# Altium footprint library Base Board.PcbLib: 37 footprints (part 1 of 3)
Each footprint in its own frame and in the unit in brackets; x right, y up, seen from the top. Pads: shape width x height; smd on the part's side, far side on the other; paste and mask are expansions set on the pad; w line width, h text height; cw(c..) or ccw(c..) is an arc to the next point about the centre after c.
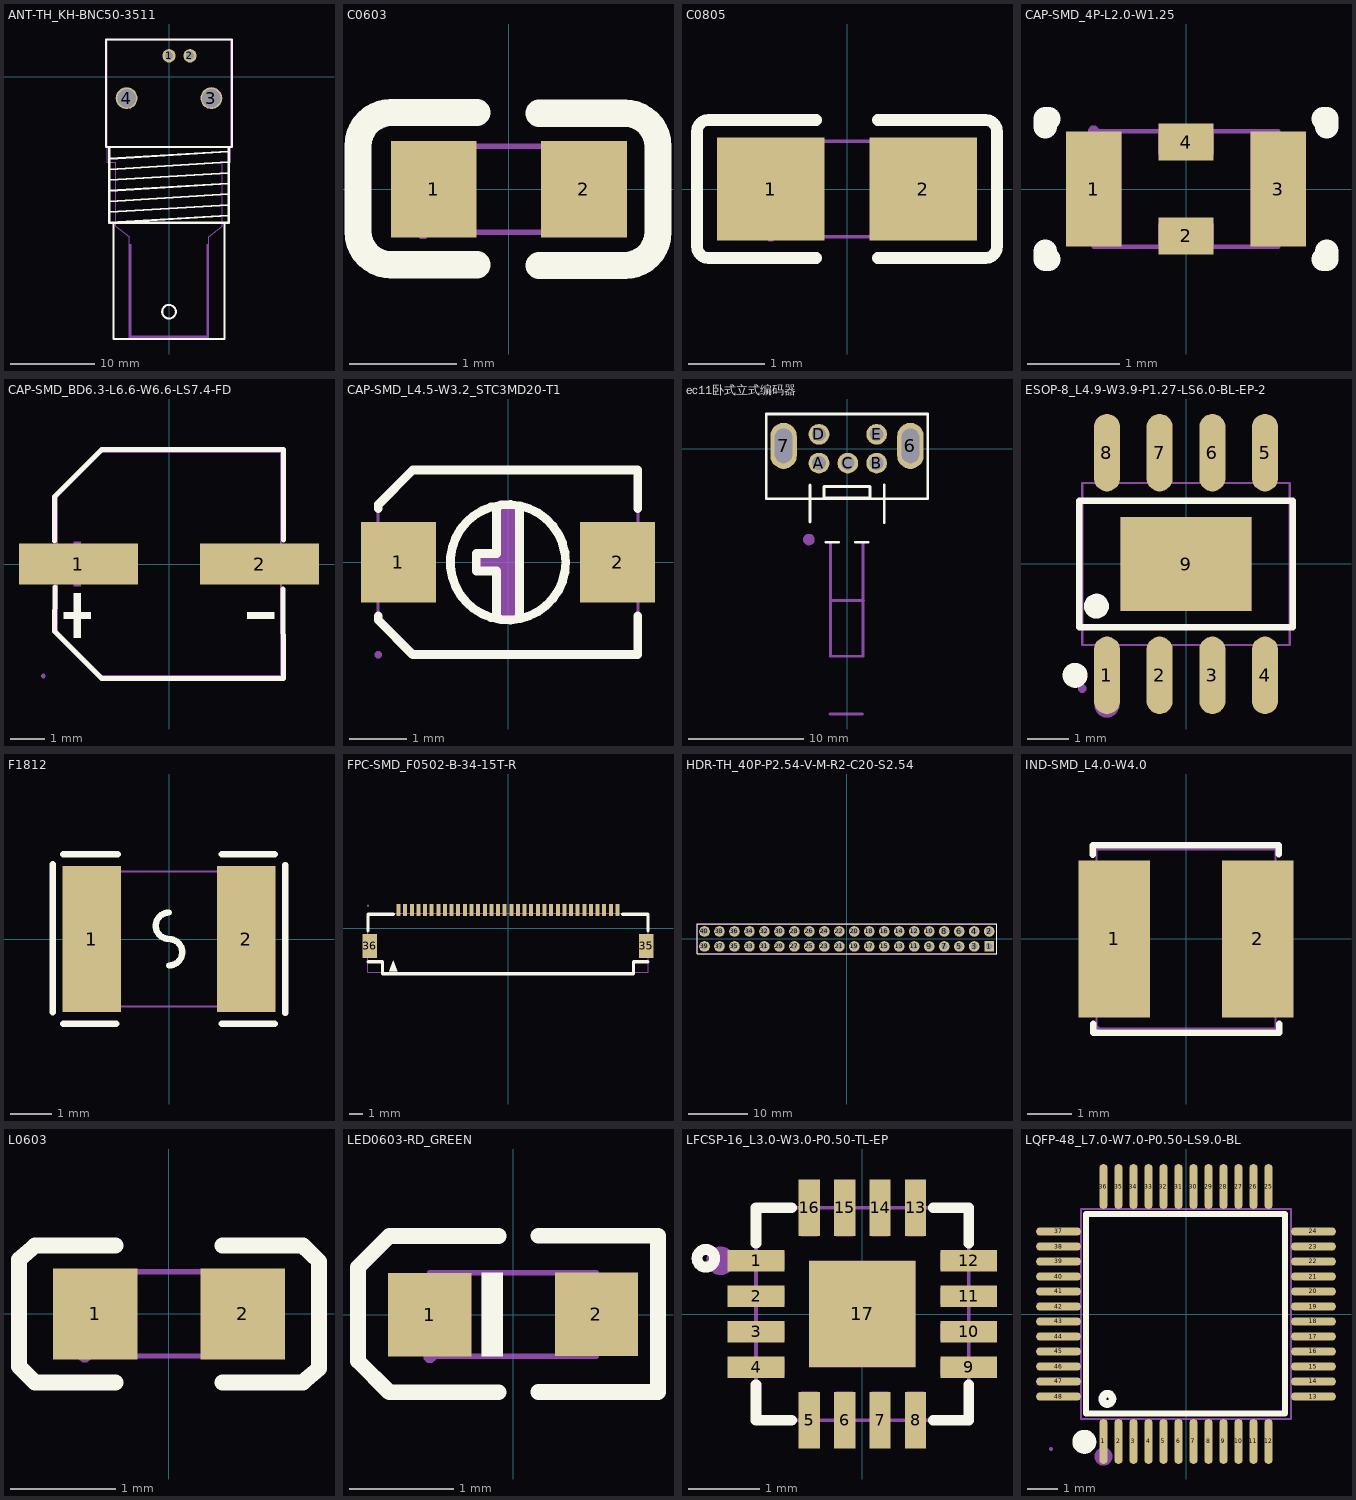
[diagram p0: the footprints below, top view; thin cyan lines are the x and y axes]

## ANT-TH_KH-BNC50-3511 [mm]
pads (4):
  round 1.6 hole 1 paste-2539.97 mask+0.05: 1(0,2.525) 2(2.5,2.525)
  round 2.601 hole 2.2 paste-2539.97 mask+0.05: 3(5.05,-2.525) 4(-5.05,-2.525)
Top Overlay:
  circle w0.254: c0,-27.955 r0.813
  lines w0.254: -7.112,-8.346 -7.112,-17.363 -7.087,-17.363 ; -7.087,-16.093 7.087,-15.23 ; -7.087,-14.823 7.087,-13.96 ; -7.087,-13.553 7.087,-12.69 ; -7.087,-12.283 7.087,-11.42 ; -7.087,-11.013 7.087,-10.15 ; -7.087,-9.743 7.087,-8.88 ; 7.087,-16.5 -7.087,-17.363 ; 7.112,-8.346 7.112,-17.363 6.604,-17.363 ; -7.087,-17.363 -6.604,-17.363 ; -6.604,-17.363 -6.604,-31.206 6.604,-31.206 6.604,-17.363 ; -6.604,-17.363 6.604,-17.363 ; -7.493,-8.342 7.493,-8.342 7.493,4.46 -7.493,4.46 -7.493,-8.342
Mechanical 6:
  region: 4.7,-19.9 4.7,-31 -4.7,-31 -4.7,-19.9 -4.5,-19.9 -4.5,-30.8 4.5,-30.8 4.5,-19.9
Mechanical 15:
  region: -7.35,4.4 -7.375,4.4 -7.41,4.435 -7.41,4.485 -7.375,4.52 -7.35,4.52 -7.325,4.52 -7.29,4.485 -7.29,4.435 -7.325,4.4 -7.35,4.4
  region: 0,2.225 -0.06,2.225 -0.17,2.271 -0.254,2.355 -0.3,2.465 -0.3,2.585 -0.254,2.695 -0.17,2.779 -0.06,2.825 0,2.825 0.06,2.825 0.17,2.779 0.254,2.695 0.3,2.585 0.3,2.465 0.254,2.355 0.17,2.271 0.06,2.225 0,2.225
  region: 2.5,2.225 2.44,2.225 2.33,2.271 2.246,2.355 2.2,2.465 2.2,2.585 2.246,2.695 2.33,2.779 2.44,2.825 2.5,2.825 2.56,2.825 2.67,2.779 2.754,2.695 2.8,2.585 2.8,2.465 2.754,2.355 2.67,2.271 2.56,2.225 2.5,2.225
  region: -4.15,-3.425 -5.95,-3.425 -5.95,-1.625 -4.15,-1.625
  region: 5.95,-3.425 4.15,-3.425 4.15,-1.625 5.95,-1.625
  lines w0.051: -7.35,-10.16 -6.35,-10.16 -6.35,-17.78 -4.75,-19.05 -4.75,-31.04 4.75,-31.04 4.75,-19.05 6.35,-17.78 6.35,-10.16 7.35,-10.16 7.35,4.46 -7.35,4.46 -7.35,-10.16

## C0603 [mm]
pads (2):
  rect 0.8x0.9 smd: 1(-0.7,0) 2(0.7,0)
Top Overlay:
  lines w0.254: -0.296,-0.704 -1.096,-0.704 cw(c-1.096,-0.394) -1.406,-0.394 -1.405,0.406 cw(c-1.096,0.406) -1.096,0.715 -0.296,0.715 ; 0.28,-0.71 1.08,-0.71 ccw(c1.08,-0.4) 1.39,-0.4 1.39,0.4 ccw(c1.08,0.4) 1.08,0.71 0.28,0.71
Mechanical 15:
  region: -0.8,-0.34 -0.775,-0.34 -0.74,-0.375 -0.74,-0.425 -0.775,-0.46 -0.8,-0.46 -0.825,-0.46 -0.86,-0.425 -0.86,-0.375 -0.825,-0.34 -0.8,-0.34
  region: 0.8,-0.4 0.8,0.4 0.5,0.4 0.5,-0.4
  region: -0.8,-0.4 -0.8,0.4 -0.5,0.4 -0.5,-0.4
  lines w0.051: -0.8,-0.4 0.8,-0.4 0.8,0.4 -0.8,0.4 -0.8,-0.4

## C0805 [mm]
pads (2):
  rect 1.41x1.35 smd paste-100 mask+0.051: 1(-1,0) 2(1,0)
Top Overlay:
  lines w0.152: -0.401,-0.904 -1.811,-0.904 cw(c-1.811,-0.751) -1.964,-0.751 -1.964,0.751 cw(c-1.811,0.751) -1.811,0.904 -0.401,0.904 ; 0.401,-0.904 1.811,-0.904 ccw(c1.811,-0.751) 1.964,-0.751 1.964,0.751 ccw(c1.811,0.751) 1.811,0.904 0.401,0.904
Top Paste:
  region: 1.705,0.64 1.705,-0.64 1.655,-0.69 0.505,-0.69 0.455,-0.64 0.45,-0.23 0.9,-0.23 0.9,0.22 0.46,0.22 0.455,0.64 0.505,0.69 1.655,0.69
  region: -1.705,-0.64 -1.705,0.64 -1.655,0.69 -0.505,0.69 -0.455,0.64 -0.45,0.23 -0.9,0.23 -0.9,-0.22 -0.46,-0.22 -0.455,-0.64 -0.505,-0.69 -1.655,-0.69
Mechanical 15:
  region: 1,0.625 1,-0.625 0.5,-0.625 0.5,0.625
  region: -1,-0.625 -1,0.625 -0.5,0.625 -0.5,-0.625
  region: -1,-0.565 -0.975,-0.565 -0.94,-0.6 -0.94,-0.65 -0.975,-0.685 -1,-0.685 -1.025,-0.685 -1.06,-0.65 -1.06,-0.6 -1.025,-0.565 -1,-0.565
  lines w0.051: -1,-0.625 1,-0.625 1,0.625 -1,0.625 -1,-0.625

## CAP-SMD_4P-L2.0-W1.25 [mm]
pads (4):
  rect 0.6x1.25 smd: 1(-1,0) 3(1,0)
  rect 0.6x0.4 smd: 2(0,-0.508) 4(0,0.508)
Top Overlay:
  lines w0.254: -1.524,-0.673 -1.524,-0.762 -1.486,-0.762 ; -1.524,0.673 -1.524,0.762 -1.486,0.762 ; 1.486,-0.762 1.524,-0.762 1.524,-0.673 ; 1.486,0.762 1.524,0.762 1.524,0.673
Mechanical 15:
  region: -1,0.685 -0.975,0.685 -0.94,0.65 -0.94,0.6 -0.975,0.565 -1,0.565 -1.025,0.565 -1.06,0.6 -1.06,0.65 -1.025,0.685 -1,0.685
  region: -0.7,0.625 -0.7,-0.625 -1,-0.625 -1,0.625
  region: 0.7,-0.625 0.7,0.625 1,0.625 1,-0.625
  region: 0.3,-0.625 -0.3,-0.625 -0.3,-0.375 0.3,-0.375
  region: -0.3,0.625 0.3,0.625 0.3,0.375 -0.3,0.375
  lines w0.051: -1,-0.625 1,-0.625 1,0.625 -1,0.625 -1,-0.625

## CAP-SMD_BD6.3-L6.6-W6.6-LS7.4-FD [mm]
pads (2):
  rect 3.5x1.2 smd: 1(-2.67,0) 2(2.67,0)
Top Overlay:
  region: -2.805,-0.858 -2.805,-2.178 -2.607,-2.178 -2.607,-0.858
  region: -3.102,-1.419 -3.102,-1.617 -2.31,-1.617 -2.31,-1.419
  region: 3.102,-1.419 3.102,-1.617 2.31,-1.617 2.31,-1.419
  lines w0.152: -3.376,0.686 -3.376,1.98 -1.98,3.376 3.376,3.376 3.369,0.708 ; -3.362,-0.686 -3.376,-1.981 -1.981,-3.376 3.376,-3.376 3.356,-0.739
Mechanical 6:
  region: -2.805,0.66 -2.805,-0.66 -2.607,-0.66 -2.607,0.66
  region: -3.102,0.099 -3.102,-0.099 -2.31,-0.099 -2.31,0.099
  region: 3.102,0.099 3.102,-0.099 2.31,-0.099 2.31,0.099
Mechanical 15:
  region: 1.052,0.35 3.701,0.35 3.701,-0.35 1.052,-0.35
  region: -3.702,0.35 -1.052,0.35 -1.052,-0.35 -3.702,-0.35
  region: -3.642,-3.3 -3.642,-3.325 -3.677,-3.36 -3.727,-3.36 -3.762,-3.325 -3.762,-3.3 -3.762,-3.275 -3.727,-3.24 -3.677,-3.24 -3.642,-3.275 -3.642,-3.3
  lines w0.051: -3.3,-1.98 -3.3,1.98 -1.98,3.3 3.3,3.3 3.3,-3.3 -1.98,-3.3 -3.3,-1.98

## CAP-SMD_L4.5-W3.2_STC3MD20-T1 [mm]
pads (2):
  rect 1.3x1.4 smd: 1(-1.9,0) 2(1.9,0)
Top Overlay:
  circle w0.152: c0,0 r1
  lines w0.152: -2.25,-0.931 -2.25,-1 -1.65,-1.6 2.25,-1.6 2.25,-0.931 ; -2.25,0.931 -2.25,1 -1.65,1.6 2.25,1.6 2.25,0.931 ; -0.2,-0.95 -0.2,-0.15 -0.55,-0.15 -0.55,0.15 -0.2,0.15 -0.2,0.95 ; 0.2,-0.95 0.2,0.95
Mechanical 6:
  region: -0.2,1 -0.2,0.15 -0.55,0.15 -0.55,-0.15 -0.2,-0.15 -0.2,-1 0.2,-1 0.2,1
Mechanical 15:
  region: -2.19,-1.6 -2.19,-1.625 -2.225,-1.66 -2.275,-1.66 -2.31,-1.625 -2.31,-1.6 -2.31,-1.575 -2.275,-1.54 -2.225,-1.54 -2.19,-1.575 -2.19,-1.6
  region: 2.25,-0.5 1.55,-0.5 1.55,0.5 2.25,0.5
  region: -1.65,-0.5 -2.25,-0.5 -2.25,0.5 -1.65,0.5
  lines w0.051: -2.25,-1 -2.25,1 -1.65,1.6 2.25,1.6 2.25,-1.6 -1.65,-1.6 -2.25,-1

## ec11卧式立式编码器 [mm]
pads (7):
  oval 2.3x4 hole 1.5 slot 3 at 90 deg: 6(5.5,0.25) 7(-5.5,0.25)
  round 1.8 hole 1.2 copper offset 0.001,0 paste-2539.97 mask+0.102: A(-2.431,-1.25) B(2.569,-1.25) D(-2.431,1.25) E(2.569,1.25)
  round 1.8 hole 1.2 copper offset 0,0 paste-2539.97 mask+0.102: C(0.069,-1.25)
Top Overlay:
  lines w0.254: -3.21,-6.339 -3.21,-3.16 ; -1.807,-8.11 -0.734,-8.11 ; 0.733,-8.11 1.806,-8.11 ; 3.231,-6.389 3.231,-3.14 ; 1.806,-8.11 1.806,-8.11 ; -7,-4.34 -7,3.01 7,3.01 7,-4.34 -7,-4.34 ; -2,-4.276 -2,-3.276 2,-3.276 2,-4.276 -2,-4.276
Mechanical 6:
  circle w0.5: c-3.302,-7.874 r0.25
  lines w0.254: -1.465,-23 1.345,-23 ; -1.439,-8.11 -1.439,-17.99 1.38,-17.99 1.38,-8.11 ; -1.385,-13.15 1.425,-13.15
  text "10" at -0.31,-11.9 h1.5
  text "20" at -0.55,-21.59 h1.5
  text "15" at -0.62,-16.33 h1.5
Mechanical 15:
  region: 5.75,1.5 5.75,-1 5.25,-1 5.25,1.5
  region: -5.25,1.5 -5.25,-1 -5.75,-1 -5.75,1.5

## ESOP-8_L4.9-W3.9-P1.27-LS6.0-BL-EP-2 [mm]
pads (9):
  oval 0.63x1.865 smd: 1(-1.905,-2.683) 2(-0.635,-2.683) 3(0.635,-2.683) 4(1.905,-2.683) 5(1.905,2.682) 6(0.635,2.682) 7(-0.635,2.682) 8(-1.905,2.682)
  rect 3.15x2.26 smd paste+0 mask+0.05: 9(0,0)
Top Overlay:
  circle w0.3: c-2.159,-1.016 r0.15
  circle w0.3: c-2.672,-2.683 r0.15
  lines w0.152: -2.576,-1.521 -2.576,1.521 2.576,1.521 2.576,-1.521 -2.576,-1.521
Mechanical 6:
  circle w0.3: c-1.905,-3.4 r0.15
Mechanical 15:
  region: -2.4,-3 -2.4,-3.041 -2.458,-3.1 -2.541,-3.1 -2.6,-3.041 -2.6,-3 -2.6,-2.959 -2.541,-2.9 -2.458,-2.9 -2.4,-2.959 -2.4,-3
  region: 1.695,1.94 1.695,2.175 2.115,2.175 2.115,1.94
  region: 1.695,2.165 1.695,3 2.115,3 2.115,2.165
  region: 0.425,1.94 0.425,2.175 0.845,2.175 0.845,1.94
  region: 0.425,2.165 0.425,3 0.845,3 0.845,2.165
  region: -0.845,1.94 -0.845,2.175 -0.425,2.175 -0.425,1.94
  region: -0.845,2.165 -0.845,3 -0.425,3 -0.425,2.165
  region: -2.115,1.94 -2.115,2.175 -1.695,2.175 -1.695,1.94
  region: -2.115,2.165 -2.115,3 -1.695,3 -1.695,2.165
  region: 1.695,-2.175 1.695,-1.94 2.115,-1.94 2.115,-2.175
  region: 1.695,-3 1.695,-2.165 2.115,-2.165 2.115,-3
  region: 0.425,-2.175 0.425,-1.94 0.845,-1.94 0.845,-2.175
  region: 0.425,-3 0.425,-2.165 0.845,-2.165 0.845,-3
  region: -0.845,-2.175 -0.845,-1.94 -0.425,-1.94 -0.425,-2.175
  region: -0.845,-3 -0.845,-2.165 -0.425,-2.165 -0.425,-3
  region: -2.115,-2.175 -2.115,-1.94 -1.695,-1.94 -1.695,-2.175
  region: -2.115,-3 -2.115,-2.165 -1.695,-2.165 -1.695,-3
  region: -1.575,1.13 1.575,1.13 1.575,-1.13 -1.575,-1.13
  lines w0.051: -2.5,-1.95 -2.5,1.95 2.5,1.95 2.5,-1.95 -2.5,-1.95

## F1812 [mm]
pads (2):
  rect 1.407x3.499 smd paste-100 mask+0.051: 1(-1.853,0) 2(1.853,0)
Top Overlay:
  lines w0.152: -2.794,-1.758 -2.794,1.798 ; -2.54,-2.032 -1.27,-2.032 ; -2.54,2.032 -1.235,2.032 ; 0,-0.635 ccw(c0,-0.318) 0,0 cw(c0,0.318) 0,0.635 ; 1.27,-2.032 2.54,-2.032 ; 1.27,2.032 2.54,2.032 ; 2.794,-1.778 2.794,1.778
Top Paste:
  region: 1.15,-1.65 1.15,-0.695 1.25,-0.595 1.528,-0.595 1.628,-0.495 1.628,0.495 1.528,0.595 1.25,0.595 1.15,0.695 1.15,1.65 1.25,1.75 2.457,1.75 2.557,1.65 2.557,-1.65 2.457,-1.75 1.25,-1.75
  region: -1.15,-1.65 -1.15,-0.695 -1.25,-0.595 -1.528,-0.595 -1.628,-0.495 -1.628,0.495 -1.528,0.595 -1.25,0.595 -1.15,0.695 -1.15,1.65 -1.25,1.75 -2.457,1.75 -2.557,1.65 -2.557,-1.65 -2.457,-1.75 -1.25,-1.75
Mechanical 15:
  region: -2.275,-1.68 -2.3,-1.68 -2.335,-1.645 -2.335,-1.595 -2.3,-1.56 -2.275,-1.56 -2.25,-1.56 -2.215,-1.595 -2.215,-1.645 -2.25,-1.68 -2.275,-1.68
  region: -2.275,-1.62 -2.275,1.62 -1.525,1.62 -1.525,-1.62
  region: 2.275,-1.62 2.275,1.62 1.525,1.62 1.525,-1.62
  lines w0.051: -2.275,-1.62 -2.275,1.62 2.275,1.62 2.275,-1.62 -2.275,-1.62

## FPC-SMD_F0502-B-34-15T-R [mm]
pads (36):
  rect 0.3x0.9 smd paste+0 mask+0.05: 1(-8.25,1.35) 2(-7.75,1.35) 3(-7.25,1.35) 4(-6.75,1.35) 5(-6.25,1.35) 6(-5.75,1.35) 7(-5.25,1.35) 8(-4.75,1.35) 9(-4.25,1.35) 10(-3.75,1.35) 11(-3.25,1.35) 12(-2.75,1.35) 13(-2.25,1.35) 14(-1.75,1.35) 15(-1.25,1.35) 16(-0.75,1.35) 17(-0.25,1.35) 18(0.25,1.35) 19(0.75,1.35) 20(1.25,1.35) 21(1.75,1.35) 22(2.25,1.35) 23(2.75,1.35) 24(3.25,1.35) 25(3.75,1.35) 26(4.25,1.35) 27(4.75,1.35) 28(5.25,1.35) 29(5.75,1.35) 30(6.25,1.35) 31(6.75,1.35) 32(7.25,1.35) 33(7.75,1.35) 34(8.25,1.35)
  rect 1.1x1.8 smd: 35(10.4,-1.35) 36(-10.4,-1.35)
Top Overlay:
  region: -8.95,-3.25 -8.35,-3.25 -8.65,-2.45
  lines w0.254: -10.55,-2.55 -9.45,-2.55 -9.45,-3.45 9.45,-3.45 9.45,-2.55 10.55,-2.55 ; -10.55,-0.219 -10.55,1.05 -8.631,1.05 ; 8.631,1.05 10.55,1.05 10.55,-0.219
Mechanical 6:
  region: -8.95,-3.25 -8.35,-3.25 -8.65,-2.45
Mechanical 15:
  drawing of 41 lines, arcs and shapes, not listed

## HDR-TH_40P-P2.54-V-M-R2-C20-S2.54 [mm]
pads (40):
  rect 1.575x1.8 hole 1.1: 1(24.13,-1.27)
  round 1.8 hole 1.1: 2(24.13,1.27) 3(21.59,-1.27) 4(21.59,1.27) 5(19.05,-1.27) 6(19.05,1.27) 7(16.51,-1.27) 8(16.51,1.27) 9(13.97,-1.27) 10(13.97,1.27) 11(11.43,-1.27) 12(11.43,1.27) 13(8.89,-1.27) 14(8.89,1.27) 15(6.35,-1.27) 16(6.35,1.27) 17(3.81,-1.27) 18(3.81,1.27) 19(1.27,-1.27) 20(1.27,1.27) 21(-1.27,-1.27) 22(-1.27,1.27) 23(-3.81,-1.27) 24(-3.81,1.27) 25(-6.35,-1.27) 26(-6.35,1.27) 27(-8.89,-1.27) 28(-8.89,1.27) 29(-11.43,-1.27) 30(-11.43,1.27) 31(-13.97,-1.27) 32(-13.97,1.27) 33(-16.51,-1.27) 34(-16.51,1.27) 35(-19.05,-1.27) 36(-19.05,1.27) 37(-21.59,-1.27) 38(-21.59,1.27) 39(-24.13,-1.27) 40(-24.13,1.27)
Top Overlay:
  lines w0.203: -25.4,-2.54 -25.4,2.54 25.4,2.54 25.4,-2.54 -25.4,-2.54
Mechanical 15:
  drawing of 45 lines, arcs and shapes, not listed

## IND-SMD_L4.0-W4.0 [mm]
pads (2):
  rect 1.6x3.5 smd: 1(-1.6,0) 2(1.6,0)
Top Overlay:
  lines w0.15: -2.08,1.88 -2.083,2.095 2.07,2.095 2.07,1.9 ; -2.07,-1.89 -2.07,-2.096 2.082,-2.096 2.08,-1.9
Mechanical 15:
  region: -2,-2.06 -2.025,-2.06 -2.06,-2.025 -2.06,-1.975 -2.025,-1.94 -2,-1.94 -1.975,-1.94 -1.94,-1.975 -1.94,-2.025 -1.975,-2.06 -2,-2.06
  region: 1.05,1.65 2,1.65 2,-1.65 1.05,-1.65
  region: -2,1.65 -1.05,1.65 -1.05,-1.65 -2,-1.65
  lines w0.051: -2,-2 -2,2 2,2 2,-2 -2,-2

## L0603 [mm]
pads (2):
  rect 0.8x0.864 smd paste-100 mask+0.051: 1(-0.7,0) 2(0.7,0)
Top Overlay:
  lines w0.152: -1.272,-0.65 -0.51,-0.65 ; -1.272,0.65 -0.51,0.65 ; -1.27,-0.651 -1.424,-0.499 -1.424,0.517 -1.27,0.65 ; 0.51,-0.65 1.272,-0.65 ; 0.51,0.65 1.272,0.65 ; 1.27,-0.65 1.424,-0.517 1.424,0.499 1.27,0.65
Top Paste:
  region: -0.252,0.143 -0.252,-0.134 -0.526,-0.427 -1.029,-0.427 -1.093,-0.363 -1.093,0.373 -1.029,0.437 -0.526,0.437
  region: 0.264,0.154 0.264,-0.122 0.538,-0.416 1.042,-0.416 1.106,-0.352 1.106,0.384 1.042,0.448 0.538,0.448
Mechanical 15:
  region: -0.74,-0.4 -0.74,-0.425 -0.775,-0.46 -0.825,-0.46 -0.86,-0.425 -0.86,-0.4 -0.86,-0.375 -0.825,-0.34 -0.775,-0.34 -0.74,-0.375 -0.74,-0.4
  region: 0.8,-0.4 0.5,-0.4 0.5,0.4 0.8,0.4
  region: -0.5,-0.4 -0.8,-0.4 -0.8,0.4 -0.5,0.4
  lines w0.051: -0.8,-0.4 0.8,-0.4 0.8,0.4 -0.8,0.4 -0.8,-0.4

## LED0603-RD_GREEN [mm]
pads (2):
  rect 0.8x0.8 smd: 1(-0.799,-0.003) 2(0.799,0.003)
Top Overlay:
  region: -0.3,0.4 -0.3,-0.4 -0.1,-0.4 -0.1,0.4
  lines w0.15: -0.14,-0.746 -1.19,-0.746 -1.49,-0.446 -1.49,-0.346 -1.49,0.354 -1.49,0.454 -1.19,0.754 -0.14,0.754 ; 0.24,-0.744 1.39,-0.744 ; 0.24,0.757 1.39,0.757 1.39,-0.723
Mechanical 6:
  region: 0.529,0.068 1.069,0.068 1.069,-0.062 0.529,-0.062
  region: 0.735,-0.267 0.735,0.273 0.865,0.273 0.865,-0.267
  region: -1.07,0.062 -0.53,0.062 -0.53,-0.068 -1.07,-0.068
  region: -0.3,0.4 -0.3,-0.4 -0.1,-0.4 -0.1,0.4
Mechanical 15:
  region: -0.86,-0.403 -0.86,-0.379 -0.824,-0.343 -0.775,-0.343 -0.74,-0.379 -0.74,-0.403 -0.74,-0.428 -0.775,-0.463 -0.824,-0.463 -0.86,-0.428 -0.86,-0.403
  region: 0.5,-0.396 0.5,0.404 0.8,0.404 0.8,-0.396
  region: -0.8,-0.403 -0.8,0.397 -0.5,0.397 -0.5,-0.403
  lines w0.051: -0.8,-0.4 -0.8,0.4 0.8,0.4 0.8,-0.4 -0.8,-0.4

## LFCSP-16_L3.0-W3.0-P0.50-TL-EP [mm]
pads (17):
  rect 0.8x0.3 smd paste-100 mask+0.051: 1(-1.5,0.75) 2(-1.5,0.25) 3(-1.5,-0.25) 4(-1.5,-0.75) 9(1.5,-0.75) 10(1.5,-0.25) 11(1.5,0.25) 12(1.5,0.75)
  rect 0.3x0.8 smd paste-100 mask+0.051: 5(-0.75,-1.5) 6(-0.25,-1.5) 7(0.25,-1.5) 8(0.751,-1.498) 13(0.75,1.5) 14(0.25,1.5) 15(-0.25,1.5) 16(-0.75,1.5)
  rect 1.5x1.5 smd paste-100 mask+0.051: 17(0,0)
Top Overlay:
  lines w0.15: -2.083,0.785 cw(c-2.208,0.786) -2.083,0.788 ; -1.5,-1 -1.5,-1.5 -1,-1.5 ; -1.5,1 -1.5,1.5 -1,1.5 ; 1,-1.5 1.5,-1.5 1.5,-1 ; 1,1.5 1.5,1.5 1.5,1
Top Paste:
  region: -0.6,-0.6 -0.6,0.6 0.6,0.6 0.6,-0.6
  region: -0.6,-1.9 -0.6,-1.1 -0.9,-1.1 -0.9,-1.9
  region: -0.1,-1.9 -0.1,-1.1 -0.4,-1.1 -0.4,-1.9
  region: 0.1,-1.1 0.1,-1.9 0.4,-1.9 0.4,-1.1
  region: 0.601,-1.098 0.601,-1.898 0.901,-1.898 0.901,-1.098
  region: 1.9,-0.9 1.9,-0.6 1.1,-0.6 1.1,-0.9
  region: 1.9,-0.4 1.9,-0.1 1.1,-0.1 1.1,-0.4
  region: 1.9,0.1 1.9,0.4 1.1,0.4 1.1,0.1
  region: 1.9,0.6 1.9,0.9 1.1,0.9 1.1,0.6
  region: 0.6,1.9 0.6,1.1 0.9,1.1 0.9,1.9
  region: 0.1,1.9 0.1,1.1 0.4,1.1 0.4,1.9
  region: -0.1,1.1 -0.1,1.9 -0.4,1.9 -0.4,1.1
  region: -0.6,1.1 -0.6,1.9 -0.9,1.9 -0.9,1.1
  region: -1.9,0.9 -1.9,0.6 -1.1,0.6 -1.1,0.9
  region: -1.9,0.4 -1.9,0.1 -1.1,0.1 -1.1,0.4
  region: -1.9,-0.1 -1.9,-0.4 -1.1,-0.4 -1.1,-0.1
  region: -1.1,-0.9 -1.1,-0.6 -1.9,-0.6 -1.9,-0.9
Mechanical 6:
  circle w0.2: c-2,0.75 r0.1
Mechanical 15:
  region: -0.75,-0.75 -0.75,0.75 0.75,0.75 0.75,-0.75
  region: -1.1,0.365 -1.1,0.135 -1.5,0.135 -1.5,0.365
  region: -1.1,0.865 -1.1,0.635 -1.5,0.635 -1.5,0.865
  region: -1.1,-0.135 -1.1,-0.365 -1.5,-0.365 -1.5,-0.135
  region: -1.1,-0.635 -1.1,-0.865 -1.5,-0.865 -1.5,-0.635
  region: -0.865,-1.1 -0.635,-1.1 -0.635,-1.5 -0.865,-1.5
  region: -0.365,-1.1 -0.135,-1.1 -0.135,-1.5 -0.365,-1.5
  region: 0.135,-1.1 0.365,-1.1 0.365,-1.5 0.135,-1.5
  region: 0.636,-1.1 0.866,-1.1 0.866,-1.5 0.636,-1.5
  region: 1.5,-0.635 1.5,-0.865 1.1,-0.865 1.1,-0.635
  region: 1.5,-0.135 1.5,-0.365 1.1,-0.365 1.1,-0.135
  region: 1.5,0.365 1.5,0.135 1.1,0.135 1.1,0.365
  region: 1.5,0.865 1.5,0.635 1.1,0.635 1.1,0.865
  region: 0.635,1.5 0.865,1.5 0.865,1.1 0.635,1.1
  region: 0.135,1.5 0.365,1.5 0.365,1.1 0.135,1.1
  region: -0.365,1.5 -0.135,1.5 -0.135,1.1 -0.365,1.1
  region: -0.865,1.5 -0.635,1.5 -0.635,1.1 -0.865,1.1
  region: -1.56,1.5 -1.56,1.525 -1.525,1.56 -1.475,1.56 -1.44,1.525 -1.44,1.5 -1.44,1.475 -1.475,1.44 -1.525,1.44 -1.56,1.475 -1.56,1.5
  lines w0.051: -1.5,-1.5 1.5,-1.5 1.5,1.5 -1.5,1.5 -1.5,-1.5

## LQFP-48_L7.0-W7.0-P0.50-LS9.0-BL [mm]
pads (48):
  oval 0.27x1.5 smd paste+0 mask+0.05: 1(-2.75,-4.25) 2(-2.25,-4.25) 3(-1.75,-4.25) 4(-1.25,-4.25) 5(-0.75,-4.25) 6(-0.25,-4.25) 7(0.25,-4.25) 8(0.75,-4.25) 9(1.25,-4.25) 10(1.75,-4.25) 11(2.25,-4.25) 12(2.75,-4.25) 25(2.75,4.25) 26(2.25,4.25) 27(1.75,4.25) 28(1.25,4.25) 29(0.75,4.25) 30(0.25,4.25) 31(-0.25,4.25) 32(-0.75,4.25) 33(-1.25,4.25) 34(-1.75,4.25) 35(-2.25,4.25) 36(-2.75,4.25)
  oval 1.5x0.27 smd paste+0 mask+0.05: 13(4.25,-2.75) 14(4.25,-2.25) 15(4.25,-1.75) 16(4.25,-1.25) 17(4.25,-0.75) 18(4.25,-0.25) 19(4.25,0.25) 20(4.25,0.75) 21(4.25,1.25) 22(4.25,1.75) 23(4.25,2.25) 24(4.25,2.75) 37(-4.25,2.75) 38(-4.25,2.25) 39(-4.25,1.75) 40(-4.25,1.25) 41(-4.25,0.75) 42(-4.25,0.25) 43(-4.25,-0.25) 44(-4.25,-0.75) 45(-4.25,-1.25) 46(-4.25,-1.75) 47(-4.25,-2.25) 48(-4.25,-2.75)
Top Overlay:
  circle w0.254: c-2.62,-2.83 r0.17
  lines w0.2: -2.896,3.34 3.302,3.34 3.302,-3.315 -3.327,-3.315 -3.327,3.34 -2.565,3.34
  lines w0.4: -3.39,-4.06 ccw(c-3.389,-4.26) -3.387,-4.06
Mechanical 6:
  circle w0.3: c-2.75,-4.75 r0.15
Mechanical 15:
  drawing of 101 lines, arcs and shapes, not listed